# Altium schematic symbol library Buttons_and_Switches.SchLib: 1 symbol
Pins are listed as number, name and electrical type; pins without a type are passive.

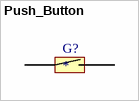
[diagram p0: symbol Push_Button]

## Push_Button
designator G?
Push Button; note: any manufacturer; val: 3x6x4.3MM 2PIN SMT Tactile Tact Push Button button SPST-NO; sample link: https://www.lcsc.com/product-detail/C42420255.html
footprint Push_Button (Footprint not found)
pins: 1, 2